# Altium footprint library PCB.PcbLib: 34 footprints (part 2 of 3)
Each footprint in its own frame and in the unit in brackets; x right, y up, seen from the top. Pads: shape width x height; smd on the part's side, far side on the other; paste and mask are expansions set on the pad; w line width, h text height; cw(c..) or ccw(c..) is an arc to the next point about the centre after c.
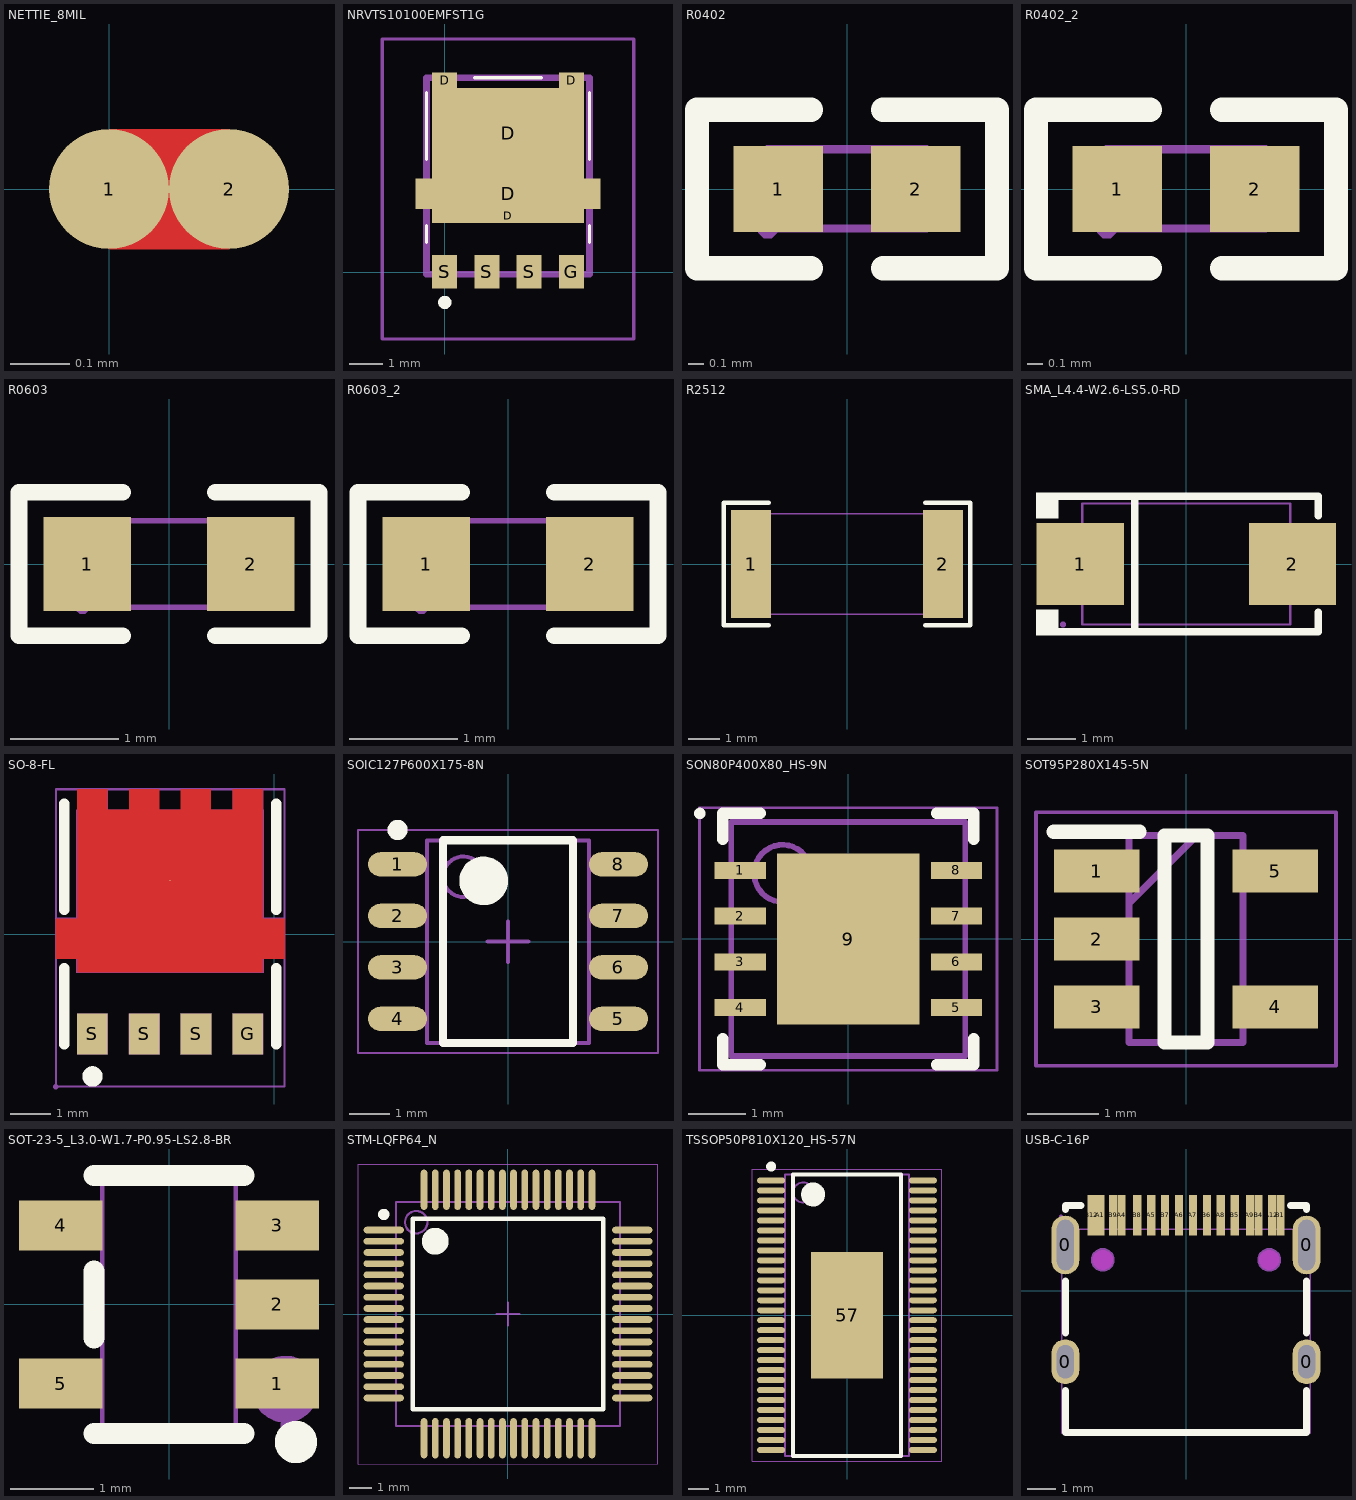
[diagram p1: the footprints below, top view; thin cyan lines are the x and y axes]

## NETTIE_8MIL [mil]
pads (2):
  round 8 smd paste-78.74 mask+0: 1(0,0) 2(8,0)
Top Layer:
  region: 0,4 8,4 8,-4 0,-4

## NRVTS10100EMFST1G [mm]
pads (9):
  rect 0.75x0.475 smd: D(0,5.779) D(3.81,5.779)
  rect 4.56x0.43 smd: D(1.905,1.699)
  rect 5.55x0.91 smd: D(1.905,2.364)
  rect 4.56x2.73 smd: D(1.905,4.179)
  rect 0.75x1 smd: G(3.81,0.021) S(0,0.021) S(1.27,0.021) S(2.54,0.021)
Top Overlay:
  lines w0.1: -0.545,0.9 -0.545,1.4 ; -0.545,3.4 -0.545,5.4 ; 0.905,5.85 2.905,5.85 ; 4.355,0.9 4.355,1.4 ; 4.355,3.4 4.355,5.4
  lines w0.2: -0.095,-0.9 ccw(c0.005,-0.9) 0.105,-0.9 ccw(c0.005,-0.9) -0.095,-0.9
Mechanical 13:
  lines w0.2: -0.545,-0.05 4.355,-0.05 4.355,5.85 -0.545,5.85 -0.545,-0.05
Mechanical 15:
  lines w0.1: -1.87,-2 5.68,-2 5.68,7.017 -1.87,7.017 -1.87,-2
3D body "NTMFS4935NT1G.stp": height 1, standoff 0, extent -0.665,-0.445 4.485,5.705

## R0402 [mm]
pads (2):
  rect 0.566x0.54 smd mask+0.051: 1(-0.433,0) 2(0.433,0)
Top Overlay:
  lines w0.152: -0.226,-0.499 -0.944,-0.499 -0.944,0.499 -0.226,0.499 ; 0.226,-0.499 0.944,-0.499 0.944,0.499 0.226,0.499
Top Paste:
  region: -0.135,-0.23 -0.135,0.23 -0.175,0.27 -0.676,0.27 -0.716,0.23 -0.716,-0.23 -0.676,-0.27 -0.175,-0.27
  region: 0.135,-0.23 0.135,0.23 0.175,0.27 0.676,0.27 0.716,0.23 0.716,-0.23 0.676,-0.27 0.175,-0.27
Mechanical 15:
  region: -0.249,0.25 -0.249,-0.25 -0.499,-0.25 -0.499,0.25
  region: 0.251,-0.25 0.251,0.25 0.501,0.25 0.501,-0.25
  region: -0.44,-0.25 -0.44,-0.225 -0.475,-0.19 -0.525,-0.19 -0.56,-0.225 -0.56,-0.25 -0.56,-0.275 -0.525,-0.31 -0.475,-0.31 -0.44,-0.275
  lines w0.051: -0.5,-0.25 0.5,-0.25 0.5,0.25 -0.5,0.25 -0.5,-0.25
3D body "R0402.step": height 0.5, standoff 0, extent -0.5,-0.246 0.5,0.254

## R0402_2 [mm]
pads (2):
  rect 0.566x0.54 smd mask+0.051: 1(-0.433,0) 2(0.433,0)
Top Overlay:
  lines w0.152: -0.226,-0.499 -0.944,-0.499 -0.944,0.499 -0.226,0.499 ; 0.226,-0.499 0.944,-0.499 0.944,0.499 0.226,0.499
Top Paste:
  region: 0.135,-0.23 0.135,0.23 0.175,0.27 0.676,0.27 0.716,0.23 0.716,-0.23 0.676,-0.27 0.175,-0.27
  region: -0.135,-0.23 -0.135,0.23 -0.175,0.27 -0.676,0.27 -0.716,0.23 -0.716,-0.23 -0.676,-0.27 -0.175,-0.27
Mechanical 15:
  region: 0.251,-0.25 0.251,0.25 0.501,0.25 0.501,-0.25
  region: -0.249,0.25 -0.249,-0.25 -0.499,-0.25 -0.499,0.25
  region: -0.44,-0.25 -0.44,-0.225 -0.475,-0.19 -0.525,-0.19 -0.56,-0.225 -0.56,-0.25 -0.56,-0.275 -0.525,-0.31 -0.475,-0.31 -0.44,-0.275
  lines w0.051: -0.5,-0.25 -0.5,0.25 0.5,0.25 0.5,-0.25 -0.5,-0.25
3D body "R0402.step": height 0.5, standoff 0, extent -0.5,-0.246 0.5,0.254

## R0603 [mm]
pads (2):
  rect 0.806x0.864 smd mask+0.051: 1(-0.753,0) 2(0.753,0)
Top Overlay:
  lines w0.152: -0.426,-0.661 -1.385,-0.661 -1.385,0.661 -0.426,0.661 ; 0.426,-0.661 1.385,-0.661 1.385,0.661 0.426,0.661
Top Paste:
  region: -0.355,0.4 -0.355,0.172 -0.735,0.172 -0.735,-0.158 -0.355,-0.158 -0.355,-0.4 -0.405,-0.45 -1.195,-0.45 -1.245,-0.4 -1.245,0.4 -1.195,0.45 -0.405,0.45
  region: 1.195,0.45 0.395,0.45 0.345,0.4 0.345,0.172 0.715,0.172 0.715,-0.158 0.345,-0.158 0.345,-0.4 0.395,-0.45 1.195,-0.45 1.245,-0.4 1.245,0.4
Mechanical 15:
  region: 0.8,-0.4 0.8,0.4 0.5,0.4 0.5,-0.4
  region: -0.8,-0.4 -0.8,0.4 -0.5,0.4 -0.5,-0.4
  region: -0.74,-0.4 -0.74,-0.375 -0.775,-0.34 -0.825,-0.34 -0.86,-0.375 -0.86,-0.4 -0.86,-0.425 -0.825,-0.46 -0.775,-0.46 -0.74,-0.425
  lines w0.051: -0.8,-0.4 0.8,-0.4 0.8,0.4 -0.8,0.4 -0.8,-0.4
3D body "R0603.step": height 0.45, standoff 0, extent -0.839,-0.398 0.781,0.412

## R0603_2 [mm]
pads (2):
  rect 0.806x0.864 smd mask+0.051: 1(-0.753,0) 2(0.753,0)
Top Overlay:
  lines w0.152: -0.426,-0.661 -1.385,-0.661 -1.385,0.661 -0.426,0.661 ; 0.426,-0.661 1.385,-0.661 1.385,0.661 0.426,0.661
Top Paste:
  region: -0.355,0.4 -0.355,0.172 -0.735,0.172 -0.735,-0.158 -0.355,-0.158 -0.355,-0.4 -0.405,-0.45 -1.195,-0.45 -1.245,-0.4 -1.245,0.4 -1.195,0.45 -0.405,0.45
  region: 1.195,0.45 0.395,0.45 0.345,0.4 0.345,0.172 0.715,0.172 0.715,-0.158 0.345,-0.158 0.345,-0.4 0.395,-0.45 1.195,-0.45 1.245,-0.4 1.245,0.4
Mechanical 15:
  region: 0.8,-0.4 0.8,0.4 0.5,0.4 0.5,-0.4
  region: -0.8,-0.4 -0.8,0.4 -0.5,0.4 -0.5,-0.4
  region: -0.74,-0.4 -0.74,-0.375 -0.775,-0.34 -0.825,-0.34 -0.86,-0.375 -0.86,-0.4 -0.86,-0.425 -0.825,-0.46 -0.775,-0.46 -0.74,-0.425
  lines w0.051: -0.8,-0.4 0.8,-0.4 0.8,0.4 -0.8,0.4 -0.8,-0.4
3D body "R0603.step": height 0.45, standoff 0, extent -0.839,-0.398 0.781,0.412

## R2512 [mm]
pads (2):
  rect 1.283x3.456 smd paste-100 mask+0.051: 1(-3.066,0) 2(3.066,0)
Top Overlay:
  lines w0.152: -2.501,-1.957 -3.936,-1.957 -3.936,1.957 -2.501,1.957 ; 2.501,-1.957 3.936,-1.957 3.936,1.957 2.501,1.957
Top Paste:
  region: 2.425,-1.628 2.425,-0.688 2.525,-0.588 2.761,-0.588 2.861,-0.488 2.861,0.488 2.761,0.588 2.525,0.588 2.425,0.688 2.425,1.628 2.525,1.728 3.608,1.728 3.708,1.628 3.708,-1.628 3.608,-1.728 2.525,-1.728
  region: -2.425,-1.628 -2.425,-0.688 -2.525,-0.588 -2.761,-0.588 -2.861,-0.488 -2.861,0.488 -2.761,0.588 -2.525,0.588 -2.425,0.688 -2.425,1.628 -2.525,1.728 -3.608,1.728 -3.708,1.628 -3.708,-1.628 -3.608,-1.728 -2.525,-1.728
Mechanical 15:
  region: -3.15,-1.6 -3.15,1.6 -2.55,1.6 -2.55,-1.6
  region: 2.55,-1.6 2.55,1.6 3.15,1.6 3.15,-1.6
  region: -3.115,-1.6 -3.115,-1.575 -3.15,-1.54 -3.2,-1.54 -3.235,-1.575 -3.235,-1.6 -3.235,-1.625 -3.2,-1.66 -3.15,-1.66 -3.115,-1.625
  lines w0.051: -3.15,-1.6 -3.15,1.6 3.15,1.6 3.15,-1.6 -3.15,-1.6
3D body "3D_PCB1_2023-04-05.step": height 0.61, standoff 0, extent -3.15,-1.6 3.15,1.6

## SMA_L4.4-W2.6-LS5.0-RD [mm]
pads (2):
  rect 1.8x1.7 smd paste+0 mask+0.051: 1(-2.192,0) 2(2.192,0)
Top Overlay:
  region: -2.65,-1.477 -2.65,-0.949 -3.107,-0.949 -3.107,-1.477
  region: -2.65,1.477 -2.65,0.949 -3.107,0.949 -3.107,1.477
  lines w0.152: -2.726,-1.401 2.726,-1.401 2.726,-1 ; -2.726,1.401 2.726,1.401 2.726,1 ; -1.07,-1.401 -1.07,1.401
Mechanical 6:
  region: 2.153,-0.663 2.153,0.663 1.954,0.663 1.954,-0.663
  region: 2.451,-0.099 2.451,0.099 1.656,0.099 1.656,-0.099
  region: -2.451,-0.099 -2.451,0.099 -1.656,0.099 -1.656,-0.099
Mechanical 15:
  region: 1.35,-0.725 1.35,0.725 2.55,0.725 2.55,-0.725
  region: -1.35,0.725 -1.35,-0.725 -2.55,-0.725 -2.55,0.725
  region: -2.55,-1.19 -2.525,-1.19 -2.49,-1.225 -2.49,-1.275 -2.525,-1.31 -2.55,-1.31 -2.575,-1.31 -2.61,-1.275 -2.61,-1.225 -2.575,-1.19 -2.55,-1.19
  lines w0.051: -2.15,-1.25 2.15,-1.25 2.15,1.25 -2.15,1.25 -2.15,-1.25
3D body "3D_PCB1_2023-08-16.step": height 2.1, standoff 0, extent -2.6,-1.245 2.6,1.255

## SO-8-FL [mm]
pads (5):
  round 0.025 smd: D(-2.553,1.308)
  rect 0.75x1 smd paste+0 mask+0.051: G(-0.645,-2.45) S(-4.455,-2.45) S(-3.185,-2.45) S(-1.915,-2.45)
Top Layer:
  region: -4.826,3.556 -4.826,0.381 -5.359,0.381 -5.359,-0.61 -4.826,-0.61 -4.826,-0.94 -0.279,-0.94 -0.279,-0.61 0.254,-0.61 0.254,0.381 -0.279,0.381 -0.279,3.556 -1.016,3.556 -1.016,3.05 -1.549,3.05 -1.549,3.556 -2.286,3.556 -2.286,3.05 -2.288,3.048 -2.819,3.048 -2.819,3.556 -3.556,3.556 -3.556,3.05 -4.089,3.05 -4.089,3.556
Top Overlay:
  lines w0.249: -4.455,-3.366 ccw(c-4.454,-3.49) -4.452,-3.366
  lines w0.254: -5.15,-2.702 -5.15,-0.833 ; -5.15,0.6 -5.15,3.2 ; 0.05,-2.702 0.05,-0.833 ; 0.05,0.6 0.05,3.2
Mechanical 15:
  region: -4.85,-0.95 -4.85,3.05 -0.25,3.05 -0.25,-0.95
  region: -3.56,-2.95 -3.56,-1.95 -2.81,-1.95 -2.81,-2.95
  region: -4.83,-2.95 -4.83,-1.95 -4.08,-1.95 -4.08,-2.95
  region: -2.29,-2.95 -2.29,-1.95 -1.54,-1.95 -1.54,-2.95
  region: -1.02,-2.95 -1.02,-1.95 -0.27,-1.95 -0.27,-2.95
  region: -4.83,2.55 -4.83,3.55 -4.08,3.55 -4.08,2.55
  region: -1.02,2.55 -1.02,3.55 -0.27,3.55 -0.27,2.55
  region: -0.25,-0.6 -0.25,0.4 0.25,0.4 0.25,-0.6
  region: -5.35,-0.6 -5.35,0.4 -4.85,0.4 -4.85,-0.6
  region: -5.29,-3.739 -5.29,-3.714 -5.325,-3.679 -5.375,-3.679 -5.41,-3.714 -5.41,-3.739 -5.41,-3.764 -5.375,-3.799 -5.325,-3.799 -5.29,-3.764
  lines w0.051: -5.35,-3.739 -5.35,3.55 0.25,3.55 0.25,-3.739 -5.35,-3.739
3D body "User Library-DFN5x6_SO8FL.STEP": height 1.13, standoff 0, extent -5.115,-2.769 0.035,3.381

## SOIC127P600X175-8N [mm] "SOIC, 8-Leads, Body 4.90x3.90mm, Pitch 1.27mm, IPC Medium Density"
height 1.75
pads (8):
  oval 1.45x0.6 smd: 1(-2.725,1.905) 2(-2.725,0.635) 3(-2.725,-0.635) 4(-2.725,-1.905) 5(2.725,-1.905) 6(2.725,-0.635) 7(2.725,0.635) 8(2.725,1.905)
Top Overlay:
  circle w0.6: c-0.6,1.5 r0.3
  circle w0.25: c-2.725,2.755 r0.125
  lines w0.2: -1.6,-2.5 1.6,-2.5 1.6,2.5 -1.6,2.5 -1.6,-2.5
Mechanical 13:
  circle w0.1: c-1.1,1.6 r0.5
  lines w0.1: -2,-2.5 2,-2.5 2,2.5 -2,2.5 -2,-2.5
Mechanical 15:
  lines w0.05: -3.7,-2.75 3.7,-2.75 3.7,2.75 -3.7,2.75 -3.7,-2.75
  lines w0.1: -0.5,0 0.5,0 ; 0,-0.5 0,0.5
3D body: height 1.75, standoff 0.1, extent -2,-2.5 2,2.5

## SON80P400X80_HS-9N [mm] "SON, 8-Leads, Body 4.00x4.00mm, Pitch 0.80mm, Thermal Pad 3.00x2.49mm, IPC Medium Density"
height 0.8
pads (9):
  rect 0.9x0.3 smd mask+0: 1(-1.895,1.2) 2(-1.895,0.4) 3(-1.895,-0.4) 4(-1.895,-1.2) 5(1.895,-1.2) 6(1.895,-0.4) 7(1.895,0.4) 8(1.895,1.2)
  rect 2.49x3 smd paste-1.245 mask+0: 9(0,0)
Top Overlay:
  circle w0.1: c-2.6,2.2 r0.05
  lines w0.2: -2.2,-1.75 -2.2,-2.2 -1.545,-2.2 ; -2.2,1.75 -2.2,2.2 -1.545,2.2 ; 1.545,-2.2 2.2,-2.2 2.2,-1.75 ; 1.545,2.2 2.2,2.2 2.2,1.75
Top Paste:
  rectangle: 0.1,0.1 1.15,1.4
  rectangle: 0.1,-1.4 1.15,-0.1
  rectangle: -1.15,0.1 -0.1,1.4
  rectangle: -1.15,-1.4 -0.1,-0.1
Mechanical 13:
  circle w0.1: c-1.15,1.15 r0.5
  lines w0.1: -2.05,-2.05 2.05,-2.05 2.05,2.05 -2.05,2.05 -2.05,-2.05
Mechanical 15:
  lines w0.05: -2.605,-2.3 2.605,-2.3 2.605,2.3 -2.605,2.3 -2.605,-2.3
  lines w0.1: -0.5,0 0.5,0 ; 0,-0.5 0,0.5
3D body: height 0.8, standoff 0, extent -2.05,-2.05 2.05,2.05

## SOT95P280X145-5N [mm]
pads (5):
  rect 1.2x0.6 smd: 1(-1.25,0.95) 2(-1.25,0) 3(-1.25,-0.95) 4(1.25,-0.95) 5(1.25,0.95)
Top Overlay:
  lines w0.2: -1.85,1.5 -0.65,1.5 ; -0.3,-1.45 0.3,-1.45 0.3,1.45 -0.3,1.45 -0.3,-1.45
Mechanical 13:
  lines w0.1: -0.8,0.5 0.15,1.45 ; -0.8,-1.45 0.8,-1.45 0.8,1.45 -0.8,1.45 -0.8,-1.45
Mechanical 15:
  lines w0.05: -2.1,-1.775 2.1,-1.775 2.1,1.775 -2.1,1.775 -2.1,-1.775
3D body "LP5907MFX-3.3_NOPB.stp": height 1.2, standoff 0, extent -1.4,-1.45 1.4,1.45

## SOT-23-5_L3.0-W1.7-P0.95-LS2.8-BR [mm]
pads (5):
  rect 1x0.6 smd: 1(1.3,-0.95) 2(1.3,0) 3(1.3,0.95) 4(-1.3,0.95) 5(-1.3,-0.95)
Top Overlay:
  circle w0.254: c1.524,-1.651 r0.127
  lines w0.254: -0.9,-1.55 0.9,-1.55 ; -0.9,-0.4 -0.9,0.4 ; -0.9,1.55 0.9,1.55
Mechanical 6:
  circle w0.4: c1.397,-1.016 r0.2
Mechanical 15:
  region: 0.79,-1.15 0.79,-0.75 0.96,-0.75 0.96,-1.15
  region: 0.95,-1.15 0.95,-0.75 1.4,-0.75 1.4,-1.15
  region: 0.79,-0.2 0.79,0.2 0.96,0.2 0.96,-0.2
  region: 0.95,-0.2 0.95,0.2 1.4,0.2 1.4,-0.2
  region: 0.79,0.75 0.79,1.15 0.96,1.15 0.96,0.75
  region: 0.95,0.75 0.95,1.15 1.4,1.15 1.4,0.75
  region: -0.96,0.75 -0.96,1.15 -0.79,1.15 -0.79,0.75
  region: -1.4,0.75 -1.4,1.15 -0.95,1.15 -0.95,0.75
  region: -0.96,-1.15 -0.96,-0.75 -0.79,-0.75 -0.79,-1.15
  region: -1.4,-1.15 -1.4,-0.75 -0.95,-0.75 -0.95,-1.15
  region: 1.46,-1.45 1.46,-1.425 1.425,-1.39 1.375,-1.39 1.34,-1.425 1.34,-1.45 1.34,-1.475 1.375,-1.51 1.425,-1.51 1.46,-1.475
  lines w0.051: -0.8,-1.45 0.8,-1.45 0.8,1.45 -0.8,1.45 -0.8,-1.45
3D body "3d_pcb1_2023-11-24_asm.stp": height 1.2, standoff 0, extent -1.445,-1.392 1.448,1.392

## STM-LQFP64_N [mm] "Thin QFP, 64-Leads, Body 10x10mm, Pitch 0.5mm, IPC Medium Density"
height 1.6
pads (64):
  oval 1.8x0.3 smd: 1(-5.55,3.75) 2(-5.55,3.25) 3(-5.55,2.75) 4(-5.55,2.25) 5(-5.55,1.75) 6(-5.55,1.25) 7(-5.55,0.75) 8(-5.55,0.25) 9(-5.55,-0.25) 10(-5.55,-0.75) 11(-5.55,-1.25) 12(-5.55,-1.75) 13(-5.55,-2.25) 14(-5.55,-2.75) 15(-5.55,-3.25) 16(-5.55,-3.75) 33(5.55,-3.75) 34(5.55,-3.25) 35(5.55,-2.75) 36(5.55,-2.25) 37(5.55,-1.75) 38(5.55,-1.25) 39(5.55,-0.75) 40(5.55,-0.25) 41(5.55,0.25) 42(5.55,0.75) 43(5.55,1.25) 44(5.55,1.75) 45(5.55,2.25) 46(5.55,2.75) 47(5.55,3.25) 48(5.55,3.75)
  oval 0.3x1.8 smd: 17(-3.75,-5.55) 18(-3.25,-5.55) 19(-2.75,-5.55) 20(-2.25,-5.55) 21(-1.75,-5.55) 22(-1.25,-5.55) 23(-0.75,-5.55) 24(-0.25,-5.55) 25(0.25,-5.55) 26(0.75,-5.55) 27(1.25,-5.55) 28(1.75,-5.55) 29(2.25,-5.55) 30(2.75,-5.55) 31(3.25,-5.55) 32(3.75,-5.55) 49(3.75,5.55) 50(3.25,5.55) 51(2.75,5.55) 52(2.25,5.55) 53(1.75,5.55) 54(1.25,5.55) 55(0.75,5.55) 56(0.25,5.55) 57(-0.25,5.55) 58(-0.75,5.55) 59(-1.25,5.55) 60(-1.75,5.55) 61(-2.25,5.55) 62(-2.75,5.55) 63(-3.25,5.55) 64(-3.75,5.55)
Top Overlay:
  circle w0.25: c-5.55,4.45 r0.125
  circle w0.6: c-3.25,3.25 r0.3
  lines w0.2: -4.25,-4.25 -4.25,4.25 4.25,4.25 4.25,-4.25 -4.25,-4.25
Mechanical 13:
  circle w0.1: c-4.1,4.1 r0.5
  lines w0.1: -5,-5 -5,5 5,5 5,-5 -5,-5
Mechanical 15:
  lines w0.05: -6.7,-6.7 -6.7,6.7 6.7,6.7 6.7,-6.7 -6.7,-6.7
  lines w0.1: -0.5,0 0.5,0 ; 0,-0.5 0,0.5
3D body: height 1.6, standoff 0.05, extent -5,-5 5,5

## TSSOP50P810X120_HS-57N [mm] "TSSOP, 56-Leads, Body 14.00x6.10mm, Pitch 0.50mm, Thermal Pad 6.35x3.61mm, IPC Medium Density"
height 1.2
pads (57):
  oval 1.4x0.3 smd: 1(-3.8,6.75) 2(-3.8,6.25) 3(-3.8,5.75) 4(-3.8,5.25) 5(-3.8,4.75) 6(-3.8,4.25) 7(-3.8,3.75) 8(-3.8,3.25) 9(-3.8,2.75) 10(-3.8,2.25) 11(-3.8,1.75) 12(-3.8,1.25) 13(-3.8,0.75) 14(-3.8,0.25) 15(-3.8,-0.25) 16(-3.8,-0.75) 17(-3.8,-1.25) 18(-3.8,-1.75) 19(-3.8,-2.25) 20(-3.8,-2.75) 21(-3.8,-3.25) 22(-3.8,-3.75) 23(-3.8,-4.25) 24(-3.8,-4.75) 25(-3.8,-5.25) 26(-3.8,-5.75) 27(-3.8,-6.25) 28(-3.8,-6.75) 29(3.8,-6.75) 30(3.8,-6.25) 31(3.8,-5.75) 32(3.8,-5.25) 33(3.8,-4.75) 34(3.8,-4.25) 35(3.8,-3.75) 36(3.8,-3.25) 37(3.8,-2.75) 38(3.8,-2.25) 39(3.8,-1.75) 40(3.8,-1.25) 41(3.8,-0.75) 42(3.8,-0.25) 43(3.8,0.25) 44(3.8,0.75) 45(3.8,1.25) 46(3.8,1.75) 47(3.8,2.25) 48(3.8,2.75) 49(3.8,3.25) 50(3.8,3.75) 51(3.8,4.25) 52(3.8,4.75) 53(3.8,5.25) 54(3.8,5.75) 55(3.8,6.25) 56(3.8,6.75)
  rect 3.61x6.35 smd: 57(0,0)
Top Overlay:
  circle w0.25: c-3.8,7.45 r0.125
  circle w0.6: c-1.7,6.05 r0.3
  lines w0.2: -2.7,-7.05 -2.7,7.05 2.7,7.05 2.7,-7.05 -2.7,-7.05
Mechanical 13:
  circle w0.1: c-2.2,6.15 r0.5
  lines w0.1: -3.1,-7.05 -3.1,7.05 3.1,7.05 3.1,-7.05 -3.1,-7.05
Mechanical 15:
  lines w0.05: -4.75,-7.3 -4.75,7.3 4.75,7.3 4.75,-7.3 -4.75,-7.3
  lines w0.1: -0.5,0 0.5,0 ; 0,-0.5 0,0.5
3D body: height 1.2, standoff 0.05, extent -3.1,-7.05 3.1,7.05

## USB-C-16P [mm]
pads (20):
  oval 1.001x1.6 hole 0.599 slot 1.199 at 90 deg paste-2539.97 mask+0.051: 0(-4.321,-2.548) 0(4.321,-2.548)
  oval 1.001x2.101 hole 0.599 slot 1.801 at 90 deg paste-2539.97 mask+0.051: 0(-4.321,1.633) 0(4.321,1.633)
  rect 0.3x1.45 smd: A1(-3.071,2.7) A4(-2.309,2.7) A5(-1.25,2.7) A6(-0.25,2.7) A7(0.25,2.7) A8(1.25,2.7) A9(2.291,2.7) A12(3.079,2.7) B1(3.384,2.7) B4(2.596,2.7) B5(1.75,2.7) B6(0.75,2.7) B7(-0.75,2.7) B8(-1.75,2.7) B9(-2.614,2.7) B12(-3.376,2.7)
Top Overlay:
  lines w0.254: -4.318,-3.579 -4.318,-5.08 4.318,-5.08 4.318,-3.579 ; -4.318,-1.516 -4.318,0.351 ; -4.318,2.913 -4.318,3.048 -3.757,3.048 ; 3.752,3.048 4.318,3.048 4.318,2.913 ; 4.318,-1.516 4.318,0.351
Keep-Out Layer:
  board cut-out: 3.33,1.102 3.33,1.172 3.277,1.301 3.178,1.4 3.049,1.453 2.91,1.453 2.781,1.4 2.682,1.301 2.629,1.172 2.629,1.102 2.629,1.033 2.682,0.904 2.781,0.805 2.91,0.752 3.049,0.752 3.178,0.805 3.277,0.904 3.33,1.033
  board cut-out: -2.629,1.102 -2.629,1.172 -2.682,1.301 -2.781,1.4 -2.91,1.453 -3.049,1.453 -3.178,1.4 -3.277,1.301 -3.33,1.172 -3.33,1.102 -3.33,1.033 -3.277,0.904 -3.178,0.805 -3.049,0.752 -2.91,0.752 -2.781,0.805 -2.682,0.904 -2.629,1.033
Mechanical 1:
  circle w0.005: c2.979,1.102 r0.351
  circle w0.005: c-2.979,1.102 r0.351
Mechanical 15:
  circle w0.051: c2.979,1.102 r0.175
  circle w0.051: c-2.979,1.102 r0.175
  region: -4.47,2.156 -4.171,2.156 -4.171,1.107 -4.47,1.107
  region: 4.171,2.156 4.47,2.156 4.47,1.107 4.171,1.107
  region: -4.47,-2.146 -4.171,-2.146 -4.171,-2.946 -4.47,-2.946
  region: 4.171,-2.146 4.47,-2.146 4.47,-2.946 4.171,-2.946
  region: 3.393,1.102 3.393,1.185 3.33,1.337 3.214,1.453 3.062,1.516 2.897,1.516 2.745,1.453 2.628,1.337 2.565,1.185 2.565,1.102 2.565,1.02 2.628,0.868 2.745,0.751 2.897,0.688 3.062,0.688 3.214,0.751 3.33,0.868 3.393,1.02
  region: -2.565,1.102 -2.565,1.185 -2.628,1.337 -2.745,1.453 -2.897,1.516 -3.062,1.516 -3.214,1.453 -3.33,1.337 -3.393,1.185 -3.393,1.102 -3.393,1.02 -3.33,0.868 -3.214,0.751 -3.062,0.688 -2.897,0.688 -2.745,0.751 -2.628,0.868 -2.565,1.02
  region: -4.409,2.647 -4.409,2.672 -4.445,2.708 -4.496,2.708 -4.531,2.672 -4.531,2.647 -4.531,2.621 -4.496,2.586 -4.445,2.586 -4.409,2.621
  lines w0.051: -4.445,-5.1 4.455,-5.1 4.455,2.2 -4.445,2.2 -4.445,-5.1
3D body "3D_PCB1_2023-04-26.step": height 3.29, standoff -1, extent -4.495,-5.018 4.445,2.732